# EAGLE library part 4051 (library PEGMA)
8-channel ANALOG MULTIPLEXER
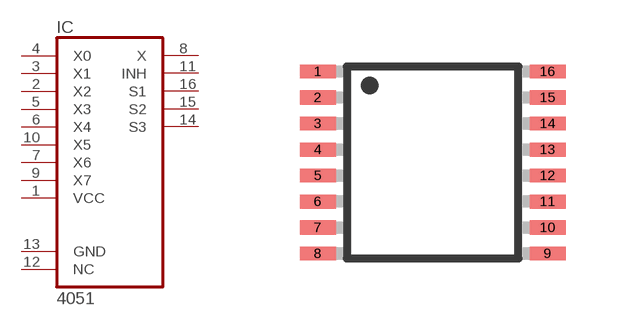
[diagram p4: symbol with the pads of TSSOP16; footprint TSSOP16]

Designator prefix IC

## 4051  [TSSOP16]
1  VCC
2  X2
3  X1
4  X0
5  X3
6  X4
7  X6
8  X
9  X7
10  X5
11  INH  in
12  NC
13  GND
14  S3  in
15  S2  in
16  S1  in

## Footprint TSSOP16 (pad centres in mm)
16-Lead Thin Shrink Small Outline Package [TSSOP] (RU-16) Source: 8x ADG1408_1409.pdf
smd 0.9 x 0.35: 1 -2.875,2.275; 2 -2.875,1.625; 3 -2.875,0.975; 4 -2.875,0.325; 5 -2.875,-0.325; 6 -2.875,-0.975; 7 -2.875,-1.625; 8 -2.875,-2.275; 9 2.875,-2.275; 10 2.875,-1.625; 11 2.875,-0.975; 12 2.875,-0.325; 13 2.875,0.325; 14 2.875,0.975; 15 2.875,1.625; 16 2.875,2.275